# EAGLE library part MPC507AP (library burr-brown)
Single-Ended 16-Channel/Differential 8-Channel CMOS Analog Multiplexers
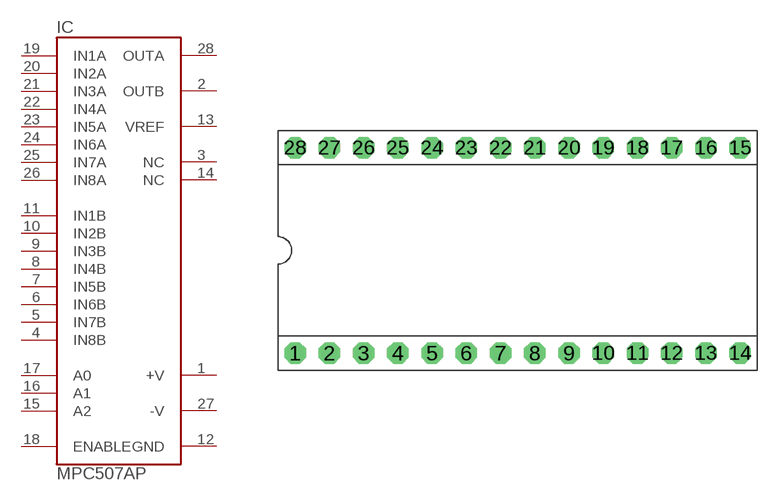
[diagram p19: symbol with the pads of DIP-28; footprint DIP-28]

Designator prefix IC

## MPC507AP  [DIP-28]
1  +V  pwr
2  OUTB  out
3  NC  nc
4  IN8B  in
5  IN7B  in
6  IN6B  in
7  IN5B  in
8  IN4B  in
9  IN3B  in
10  IN2B  in
11  IN1B  in
12  GND  pwr
13  VREF
14  NC  nc
15  A2  in
16  A1  in
17  A0  in
18  ENABLE  in
19  IN1A  in
20  IN2A  in
21  IN3A  in
22  IN4A  in
23  IN5A  in
24  IN6A  in
25  IN7A  in
26  IN8A  in
27  -V  pwr
28  OUTA  out

## Footprint DIP-28 (pad centres in mm)
drill 0.813 pad 1.6 octagon: 1 -16.51,-7.62; 2 -13.97,-7.62; 3 -11.43,-7.62; 4 -8.89,-7.62; 5 -6.35,-7.62; 6 -3.81,-7.62; 7 -1.27,-7.62; 8 1.27,-7.62; 9 3.81,-7.62; 10 6.35,-7.62; 11 8.89,-7.62; 12 11.43,-7.62; 13 13.97,-7.62; 14 16.51,-7.62; 15 16.51,7.62; 16 13.97,7.62; 17 11.43,7.62; 18 8.89,7.62; 19 6.35,7.62; 20 3.81,7.62; 21 1.27,7.62; 22 -1.27,7.62; 23 -3.81,7.62; 24 -6.35,7.62; 25 -8.89,7.62; 26 -11.43,7.62; 27 -13.97,7.62; 28 -16.51,7.62